# EAGLE library part M16C/62M(80PIN) (library renesas_mcu)
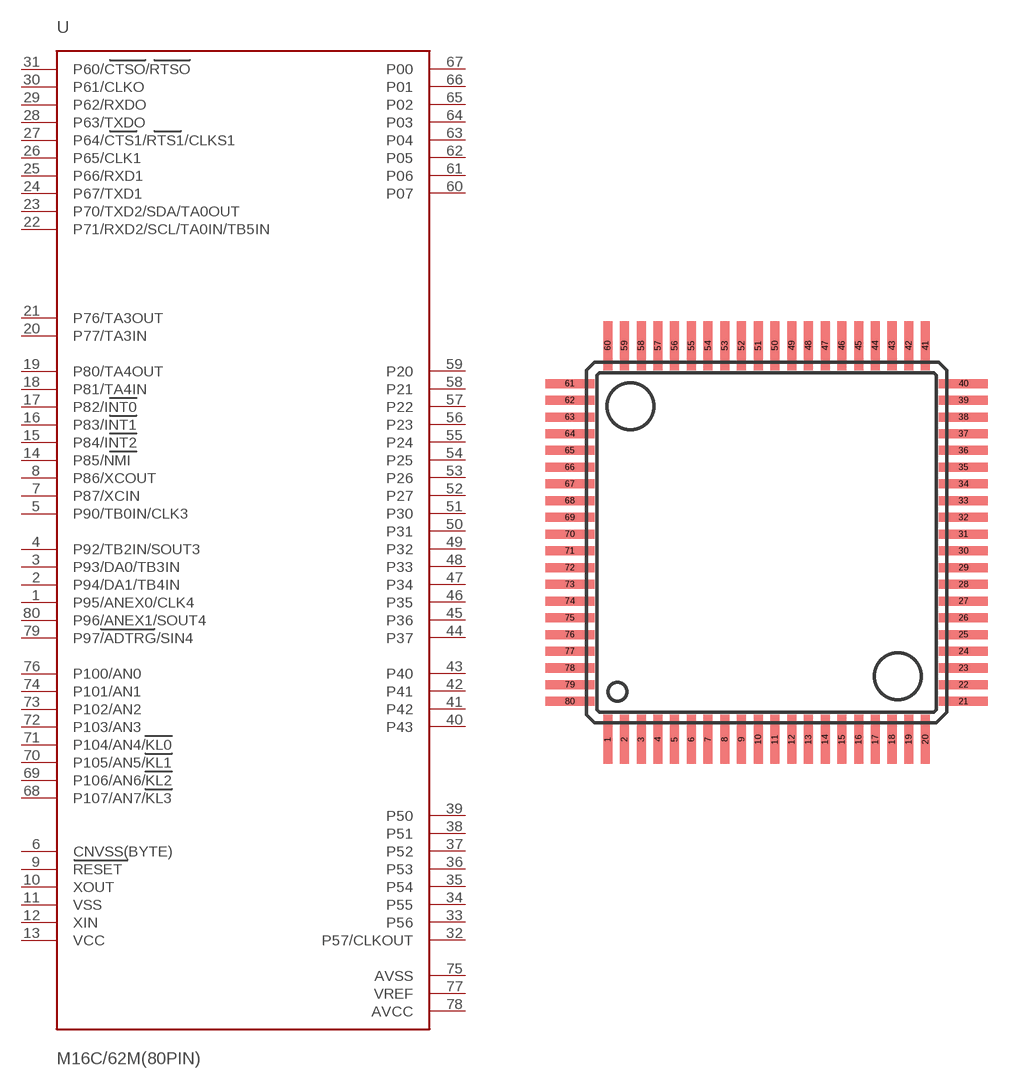
[diagram p25: symbol with the pads of 80P6S-A; footprint 80P6S-A]

Designator prefix -

## M16C/62M(80PIN)  [80P6S-A]
1  P95/ANEX0/CLK4
2  P94/DA1/TB4IN
3  P93/DA0/TB3IN
4  P92/TB2IN/SOUT3
5  P90/TB0IN/CLK3
6  CNVSS(BYTE)  in
7  P87/XCIN
8  P86/XCOUT
9  RESET  in
10  XOUT  out
11  VSS  pwr
12  XIN  in
13  VCC  pwr
14  P85/NMI  in
15  P84/INT2
16  P83/INT1
17  P82/INT0
18  P81/TA4IN
19  P80/TA4OUT
20  P77/TA3IN
21  P76/TA3OUT
22  P71/RXD2/SCL/TA0IN/TB5IN
23  P70/TXD2/SDA/TA0OUT
24  P67/TXD1
25  P66/RXD1
26  P65/CLK1
27  P64/CTS1/RTS1/CLKS1
28  P63/TXDO
29  P62/RXDO
30  P61/CLKO
31  P60/CTSO/RTSO
32  P57/CLKOUT
33  P56
34  P55
35  P54
36  P53
37  P52
38  P51
39  P50
40  P43
41  P42
42  P41
43  P40
44  P37
45  P36
46  P35
47  P34
48  P33
49  P32
50  P31
51  P30
52  P27
53  P26
54  P25
55  P24
56  P23
57  P22
58  P21
59  P20
60  P07
61  P06
62  P05
63  P04
64  P03
65  P02
66  P01
67  P00
68  P107/AN7/KL3
69  P106/AN6/KL2
70  P105/AN5/KL1
71  P104/AN4/KL0
72  P103/AN3
73  P102/AN2
74  P101/AN1
75  AVSS  in
76  P100/AN0
77  VREF  in
78  AVCC  in
79  P97/ADTRG/SIN4
80  P96/ANEX1/SOUT4

## Footprint 80P6S-A (pad centres in mm)
smd 0.35 x 1.9: 1 -6.175,-7.65; 2 -5.525,-7.65; 3 -4.875,-7.65; 4 -4.225,-7.65; 5 -3.575,-7.65; 6 -2.925,-7.65; 7 -2.275,-7.65; 8 -1.625,-7.65; 9 -0.975,-7.65; 10 -0.325,-7.65; 11 0.325,-7.65; 12 0.975,-7.65; 13 1.625,-7.65; 14 2.275,-7.65; 15 2.925,-7.65; 16 3.575,-7.65; 17 4.225,-7.65; 18 4.875,-7.65; 19 5.525,-7.65; 20 6.175,-7.65; 41 6.175,7.65; 42 5.525,7.65; 43 4.875,7.65; 44 4.225,7.65; 45 3.575,7.65; 46 2.925,7.65; 47 2.275,7.65; 48 1.625,7.65; 49 0.975,7.65; 50 0.325,7.65; 51 -0.325,7.65; 52 -0.975,7.65; 53 -1.625,7.65; 54 -2.275,7.65; 55 -2.925,7.65; 56 -3.575,7.65; 57 -4.225,7.65; 58 -4.875,7.65; 59 -5.525,7.65; 60 -6.175,7.65
smd 1.9 x 0.35: 21 7.65,-6.175; 22 7.65,-5.525; 23 7.65,-4.875; 24 7.65,-4.225; 25 7.65,-3.575; 26 7.65,-2.925; 27 7.65,-2.275; 28 7.65,-1.625; 29 7.65,-0.975; 30 7.65,-0.325; 31 7.65,0.325; 32 7.65,0.975; 33 7.65,1.625; 34 7.65,2.275; 35 7.65,2.925; 36 7.65,3.575; 37 7.65,4.225; 38 7.65,4.875; 39 7.65,5.525; 40 7.65,6.175; 61 -7.65,6.175; 62 -7.65,5.525; 63 -7.65,4.875; 64 -7.65,4.225; 65 -7.65,3.575; 66 -7.65,2.925; 67 -7.65,2.275; 68 -7.65,1.625; 69 -7.65,0.975; 70 -7.65,0.325; 71 -7.65,-0.325; 72 -7.65,-0.975; 73 -7.65,-1.625; 74 -7.65,-2.275; 75 -7.65,-2.925; 76 -7.65,-3.575; 77 -7.65,-4.225; 78 -7.65,-4.875; 79 -7.65,-5.525; 80 -7.65,-6.175